# Altium footprint library Deck_PcbLibV1.PcbLib: 13 footprints
Each footprint in its own frame and in the unit in brackets; x right, y up, seen from the top. Pads: shape width x height; smd on the part's side, far side on the other; paste and mask are expansions set on the pad; w line width, h text height; cw(c..) or ccw(c..) is an arc to the next point about the centre after c.
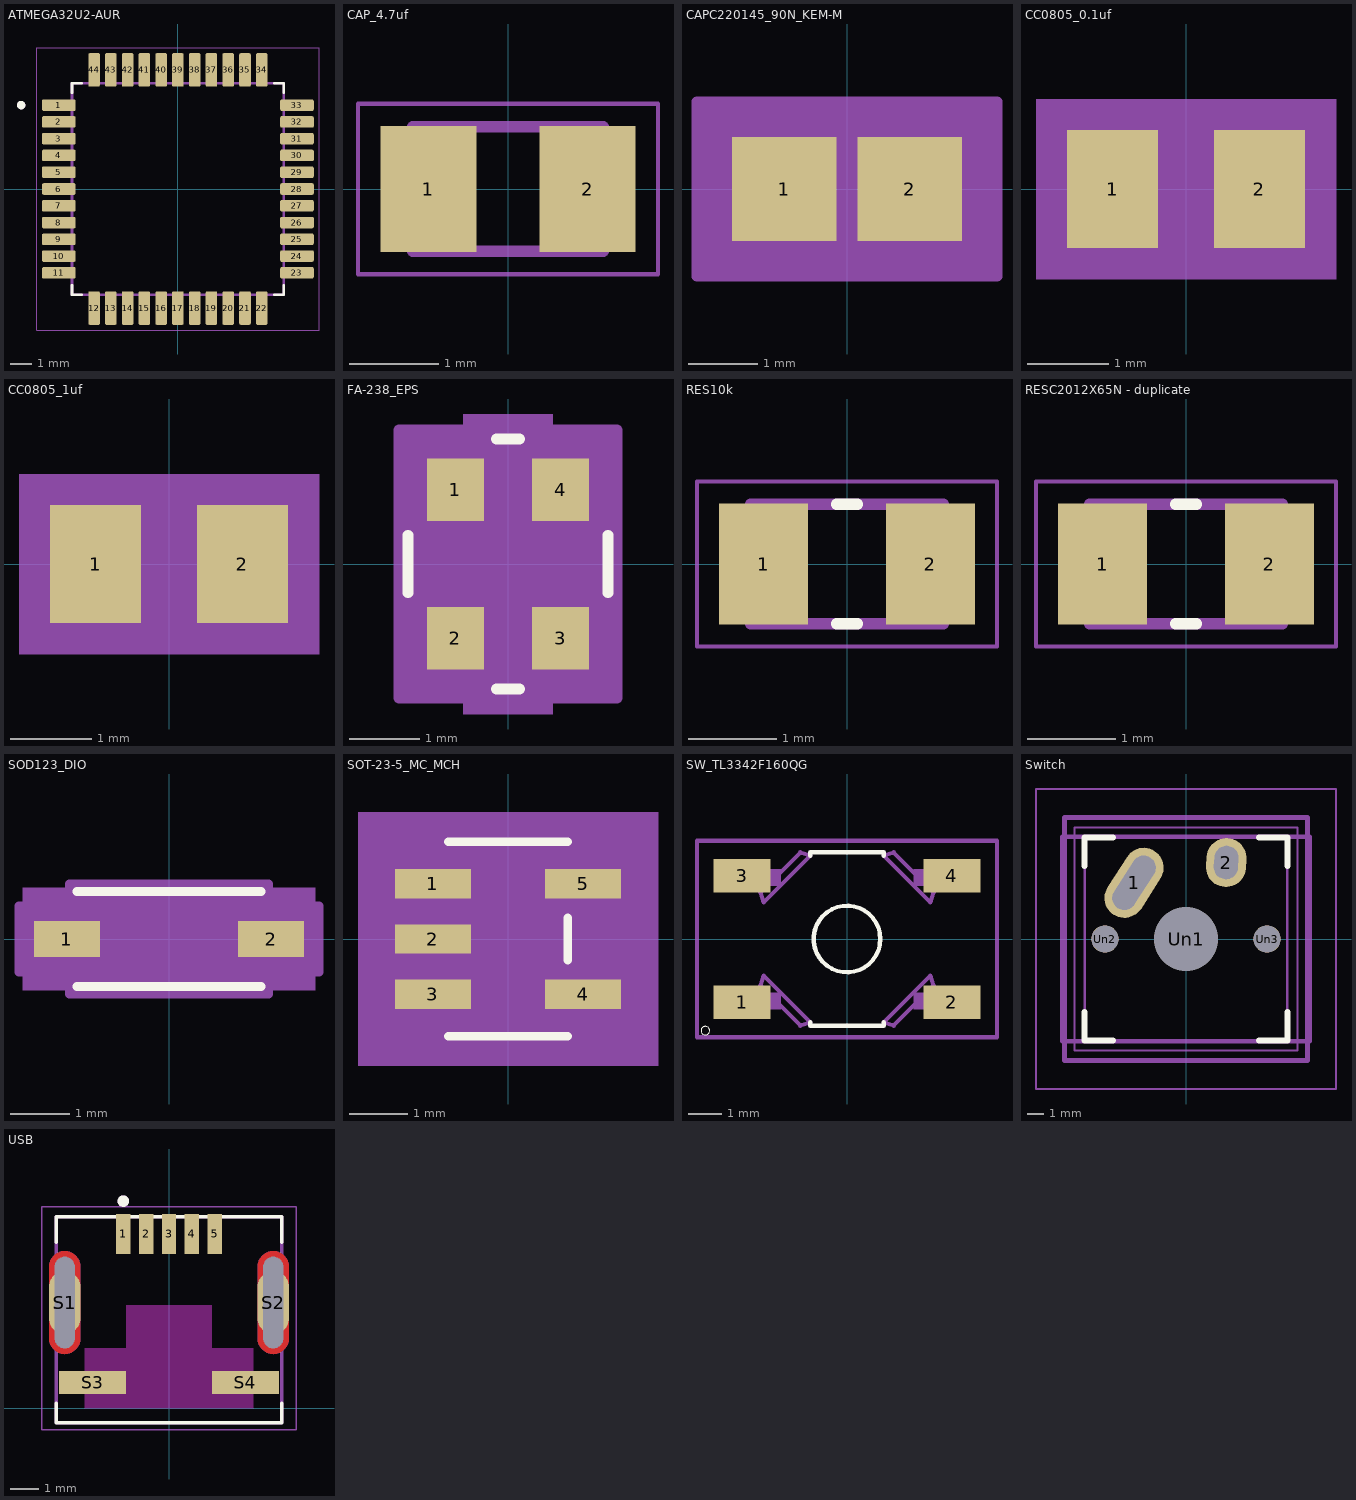
[diagram p0: the footprints below, top view; thin cyan lines are the x and y axes]

## ATMEGA32U2-AUR [mm]
pads (44):
  rrect25% 1.6x0.55 smd: 1(-5.68,4) 2(-5.68,3.2) 3(-5.68,2.4) 4(-5.68,1.6) 5(-5.68,0.8) 6(-5.68,0) 7(-5.68,-0.8) 8(-5.68,-1.6) 9(-5.68,-2.4) 10(-5.68,-3.2) 11(-5.68,-4) 23(5.68,-4) 24(5.68,-3.2) 25(5.68,-2.4) 26(5.68,-1.6) 27(5.68,-0.8) 28(5.68,0) 29(5.68,0.8) 30(5.68,1.6) 31(5.68,2.4) 32(5.68,3.2) 33(5.68,4)
  rrect25% 0.55x1.6 smd: 12(-4,-5.68) 13(-3.2,-5.68) 14(-2.4,-5.68) 15(-1.6,-5.68) 16(-0.8,-5.68) 17(0,-5.68) 18(0.8,-5.68) 19(1.6,-5.68) 20(2.4,-5.68) 21(3.2,-5.68) 22(4,-5.68) 34(4,5.68) 35(3.2,5.68) 36(2.4,5.68) 37(1.6,5.68) 38(0.8,5.68) 39(0,5.68) 40(-0.8,5.68) 41(-1.6,5.68) 42(-2.4,5.68) 43(-3.2,5.68) 44(-4,5.68)
Top Overlay:
  circle w0.2: c-7.48,4 r0.1
  lines w0.127: -5.05,-4.595 -5.05,-5.05 -4.595,-5.05 ; -5.05,4.595 -5.05,5.05 -4.595,5.05 ; 4.595,-5.05 5.05,-5.05 5.05,-4.595 ; 4.595,5.05 5.05,5.05 5.05,4.595
Mechanical 13:
  circle w0.2: c-7.48,4 r0.1
  lines w0.127: -5.05,-5.05 -5.05,5.05 5.05,5.05 5.05,-5.05 -5.05,-5.05
Mechanical 15:
  lines w0.05: -6.73,-6.73 -6.73,6.73 6.73,6.73 6.73,-6.73 -6.73,-6.73
3D body "ATMEGA32U4-AUR--3DModel-STEP-56544.STEP": height 1.21, standoff 0.01, extent -6,-6 6,6

## CAP_4.7uf [mm]
pads (2):
  rect 1.08x1.42 smd: 1(-0.895,0) 2(0.895,0)
Mechanical 13:
  lines w0.127: -1.07,-0.7 1.07,-0.7 1.07,0.7 -1.07,0.7 -1.07,-0.7
Mechanical 15:
  lines w0.05: -1.685,-0.96 1.685,-0.96 1.685,0.96 -1.685,0.96 -1.685,-0.96
3D body "GRM219R61E475KA73D.STEP": height 0.95, standoff 0, extent -1,-0.635 1,0.615

## CAPC220145_90N_KEM-M [mm]
pads (2):
  rect 1.509x1.501 smd paste+0 mask+0: 1(-0.904,0) 2(0.904,0)
Mechanical 5:
  region: 2.04,-1.131 -2.04,-1.131 -2.04,1.131 2.04,1.131
Mechanical 13:
  lines w0.025: -1.1,-0.725 -1.1,0.725 ; -1.1,-0.725 1.1,-0.725 ; -1.1,-0.725 -0.35,-0.725 -0.35,0.725 -1.1,0.725 ; -1.1,-0.725 -1.1,0.725 ; -1.1,0.725 1.1,0.725 ; 1.1,-0.725 1.1,0.725 ; 1.1,-0.725 1.1,0.725 ; 1.1,-0.725 0.35,-0.725 0.35,0.725 1.1,0.725
Mechanical 15:
  region: 2.167,-1.258 -2.167,-1.258 -2.167,1.258 2.167,1.258
  lines w0.152: -2.167,-1.258 2.167,-1.258 2.167,1.258 -2.167,1.258 -2.167,-1.258
3D body "CAPC220145_90N_KEM.step": height 0.9, standoff 0, extent -1.1,-0.725 1.1,0.725
3D body: height 0.25, standoff 0, extent 0,0 0.254,0.254

## CC0805_0.1uf [mil]
pads (2):
  rect 44x57 smd paste+0 mask+0: 1(-35.5,0) 2(35.5,0)
Mechanical 5:
  region: 72.5,-43.5 -72.5,-43.5 -72.5,43.5 72.5,43.5
Mechanical 13:
  lines w1: -43.5,-28.5 -43.5,28.5 ; -43.5,-28.5 -13.5,-28.5 -13.5,28.5 -43.5,28.5 ; -43.5,-28.5 43.5,-28.5 ; -43.5,-28.5 -43.5,28.5 ; -43.5,28.5 43.5,28.5 ; 43.5,-28.5 13.5,-28.5 13.5,28.5 43.5,28.5 ; 43.5,-28.5 43.5,28.5 ; 43.5,-28.5 43.5,28.5
Mechanical 15:
  region: 67.5,-38.5 -67.5,-38.5 -67.5,38.5 67.5,38.5
  lines w6: -67.5,-38.5 -67.5,38.5 67.5,38.5 67.5,-38.5 -67.5,-38.5
3D body "YAG_CC0805_YAG.step": height 57.01, standoff 0, extent -43.5,-28.5 43.51,28.51
3D body: height 10, standoff 0, extent 0,0 10,10

## CC0805_1uf [mil]
pads (2):
  rect 44x57 smd paste+0 mask+0: 1(-35.5,0) 2(35.5,0)
Mechanical 5:
  region: 72.5,-43.5 -72.5,-43.5 -72.5,43.5 72.5,43.5
Mechanical 13:
  lines w1: -43.5,-28.5 -43.5,28.5 ; -43.5,-28.5 43.5,-28.5 ; -43.5,-28.5 -13.5,-28.5 -13.5,28.5 -43.5,28.5 ; -43.5,-28.5 -43.5,28.5 ; -43.5,28.5 43.5,28.5 ; 43.5,-28.5 43.5,28.5 ; 43.5,-28.5 43.5,28.5 ; 43.5,-28.5 13.5,-28.5 13.5,28.5 43.5,28.5
Mechanical 15:
  region: 67.5,-38.5 -67.5,-38.5 -67.5,38.5 67.5,38.5
  lines w6: -67.5,-38.5 67.5,-38.5 67.5,38.5 -67.5,38.5 -67.5,-38.5
3D body "YAG_CC0805_YAG.step": height 57.01, standoff 0, extent -43.5,-28.5 43.51,28.51
3D body: height 10, standoff 0, extent 0,0 10,10

## FA-238_EPS [mil]
pads (4):
  rect 32x35 smd paste+0 mask+0: 1(-29.5,41.5) 2(-29.5,-41.5) 3(29.5,-41.5) 4(29.5,41.5)
Top Overlay:
  lines w6: -56,-16.17 -56,16.17 ; -6.39,-70 6.39,-70 ; -6.39,70 6.39,70 ; 56,-16.17 56,16.17
Mechanical 5:
  region: 25,-84 -25,-84 -25,84 25,84
Mechanical 13:
  lines w1: -51,15 -1,65 ; -51,-65 -51,65 51,65 51,-65 -51,-65 ; -45.5,-65 -45.5,-59 -13.5,-59 -13.5,-65 -45.5,-65 ; -45.5,59 -45.5,65 -13.5,65 -13.5,59 -45.5,59 ; 13.5,-65 13.5,-59 45.5,-59 45.5,-65 13.5,-65 ; 13.5,59 13.5,65 45.5,65 45.5,59 13.5,59
Mechanical 15:
  region: -55.5,-75 -61,-75 -61,3.5 -61,-3.5 -61,75 -55.5,75 55.5,75 61,75 61,-3.5 61,3.5 61,-75 55.5,-75
  lines w6: -61,-75 -55.5,-75 55.5,-75 61,-75 61,3.5 61,-3.5 61,75 55.5,75 -55.5,75 -61,75 -61,-3.5 -61,3.5 -61,-75
3D body "Crystal.STEP": height 27.95, standoff 0, extent -49.22,-62.99 49.21,63
3D body: height 10, standoff 0, extent 0,0 10,10

## RES10k [mm]
pads (2):
  rect 1.01x1.38 smd: 1(-0.95,0) 2(0.95,0)
Top Overlay:
  lines w0.127: -0.12,-0.68 0.12,-0.68 ; -0.12,0.68 0.12,0.68
Mechanical 13:
  lines w0.127: -1.1,-0.68 1.1,-0.68 1.1,0.68 -1.1,0.68 -1.1,-0.68
Mechanical 15:
  lines w0.05: -1.708,-0.94 1.708,-0.94 1.708,0.94 -1.708,0.94 -1.708,-0.94
3D body "RMCF0805JT22R0.STEP": height 0.65, standoff 0, extent -1,-0.625 1,0.625

## RESC2012X65N - duplicate [mm]
pads (2):
  rect 1.01x1.38 smd: 1(-0.95,0) 2(0.95,0)
Top Overlay:
  lines w0.127: -0.12,-0.68 0.12,-0.68 ; -0.12,0.68 0.12,0.68
Mechanical 13:
  lines w0.127: -1.1,-0.68 1.1,-0.68 1.1,0.68 -1.1,0.68 -1.1,-0.68
Mechanical 15:
  lines w0.05: -1.708,-0.94 1.708,-0.94 1.708,0.94 -1.708,0.94 -1.708,-0.94
3D body "RMCF0805JT10K0.STEP": height 0.65, standoff 0, extent -1,-0.625 1,0.625

## SOD123_DIO [mm]
pads (2):
  rect 1.111x0.601 smd paste+0 mask+0: 1(-1.725,0) 2(1.725,0)
Top Overlay:
  lines w0.152: -1.552,-0.802 1.552,-0.802 ; -1.552,0.802 1.552,0.802
Mechanical 5:
  region: 2.471,-0.865 -2.471,-0.865 -2.471,0.865 2.471,0.865
Mechanical 13:
  lines w0.025: -1.425,-0.337 -1.087,-0.675 ; -1.425,0.337 -1.087,0.675 ; -1.925,-0.275 -1.425,-0.275 -1.425,0.275 -1.925,0.275 -1.925,-0.275 ; -1.425,-0.675 -1.425,0.675 1.425,0.675 1.425,-0.675 -1.425,-0.675 ; 1.425,-0.275 1.925,-0.275 1.925,0.275 1.425,0.275 1.425,-0.275
  text "*" at -1.488,-0.635 h1.27
Mechanical 15:
  region: -1.679,-0.554 -2.535,-0.554 -2.535,0.554 -1.679,0.554 -1.679,0.929 1.679,0.929 1.679,0.554 2.535,0.554 2.535,-0.554 1.679,-0.554 1.679,-0.929 -1.679,-0.929
  lines w0.152: -2.535,-0.554 -1.679,-0.554 -1.679,-0.929 1.679,-0.929 1.679,-0.554 2.535,-0.554 2.535,0.554 1.679,0.554 1.679,0.929 -1.679,0.929 -1.679,0.554 -2.535,0.554 -2.535,-0.554
3D body "SOD123_DIO.step": height 0.81, standoff 0, extent -1.925,-0.675 1.925,0.675
3D body: height 0.25, standoff 0, extent 0,0 0.254,0.254

## SOT-23-5_MC_MCH [mil]
pads (5):
  rect 51.56x20 smd paste+0 mask+0: 1(-51,37.4) 2(-51,0) 3(-51,-37.4) 4(51,-37.4) 5(51,37.4)
Top Overlay:
  lines w6: -40.5,-66 40.5,-66 ; -40.5,66 40.5,66 ; 40.5,-14.3 40.5,14.3
Mechanical 5:
  region: 101.78,-86 -101.78,-86 -101.78,86 101.78,86
Mechanical 13:
  lines w0: -12,61 ccw(c0,61) 12,61
  lines w1: -63,-47.4 -35.5,-47.4 -35.5,-27.4 -63,-27.4 -63,-47.4 ; -63,-10 -35.5,-10 -35.5,10 -63,10 -63,-10 ; -63,27.4 -35.5,27.4 -35.5,47.4 -63,47.4 -63,27.4 ; -35.5,-61 -35.5,61 35.5,61 35.5,-61 -35.5,-61 ; 35.5,-47.4 63,-47.4 63,-27.4 35.5,-27.4 35.5,-47.4 ; 35.5,27.4 63,27.4 63,47.4 35.5,47.4 35.5,27.4
  text "*" at -38,14.4 h50
Mechanical 15:
  region: 45.5,-71 -45.5,-71 -45.5,-57.4 -86.78,-57.4 -86.78,57.4 -45.5,57.4 -45.5,71 45.5,71 45.5,57.4 86.78,57.4 86.78,-57.4 45.5,-57.4
  lines w6: -86.78,-57.4 -86.78,57.4 -45.5,57.4 -45.5,71 45.5,71 45.5,57.4 86.78,57.4 86.78,-57.4 45.5,-57.4 45.5,-71 -45.5,-71 -45.5,-57.4 -86.78,-57.4
3D body: height 10, standoff 0, extent 0,0 10,10
3D body "SOT-23-5_MC_MCH.step": height 57.09, standoff 0, extent -62.99,-60.98 63,60.99

## SW_TL3342F160QG [mm]
pads (4):
  rect 1.7x1 smd: 1(-3.15,-1.9) 2(3.15,-1.9) 3(-3.15,1.9) 4(3.15,1.9)
Top Overlay:
  circle w0: c-4.25,-2.75 r0.127
  circle w0.127: c0,0 r1
  lines w0.127: -1.1,-2.5 -1.1,-2.6 1.1,-2.6 1.1,-2.5 ; -1.1,2.5 -1.1,2.6 1.1,2.6 1.1,2.5
Mechanical 13:
  region: 3.205,-2.107 2.007,-2.107 2.007,-1.605 3.205,-1.605
  region: -1.995,-2.106 -3.196,-2.106 -3.196,-1.605 -1.995,-1.605
  region: 3.205,1.597 2.008,1.597 2.008,2.095 3.205,2.095
  region: -1.995,1.597 -3.199,1.597 -3.199,2.095 -1.995,2.095
  lines w0.127: -2.6,-1.4 -2.5,-1.1 -1.1,-2.5 -1.4,-2.6 -2.6,-1.4 ; -2.6,1.4 -2.5,1.1 -1.1,2.5 -1.4,2.6 -2.6,1.4 ; 1.1,-2.5 1.4,-2.6 2.6,-1.4 2.5,-1.1 1.1,-2.5 ; 1.1,2.5 1.4,2.6 2.6,1.4 2.5,1.1 1.1,2.5
Mechanical 15:
  lines w0.127: -4.5,-2.95 -4.5,2.95 4.5,2.95 4.5,-2.95 -4.5,-2.95

## Switch [mm]
pads (5):
  rrect100% 2.5x4.75 hole 3.75 slot 1.5 at 147.5 deg rot 147.5: 1(-3.255,3.52)
  rrect100% 2.5x3.08 hole 2.08 slot 1.5 at 176.1 deg rot 176.1: 2(2.52,4.79)
  round 3.988 hole 3.988: Un1(0,0)
  round 1.702 hole 1.702: Un2(-5.08,0) Un3(5.08,0)
Top Overlay:
  lines w0.381: -6.35,-4.572 -6.35,-6.35 -4.572,-6.35 ; -6.35,4.572 -6.35,6.35 -4.572,6.35 ; 4.572,-6.35 6.35,-6.35 6.35,-4.572 ; 4.572,6.35 6.35,6.35 6.35,4.572
Mechanical 2:
  lines w0.152: -9.398,-9.398 -9.398,9.398 9.398,9.398 9.398,-9.398 -9.398,-9.398
  lines w0.3: -7.75,-6.4 7.75,-6.4 7.75,6.4 -7.75,6.4 -7.75,-6.4 ; -7.62,-7.62 -7.62,7.62 7.62,7.62 7.62,-7.62 -7.62,-7.62
Mechanical 7:
  lines w0.152: -6.35,-6.35 -6.35,6.35 6.35,6.35 6.35,-6.35 -6.35,-6.35
Mechanical 9:
  lines w0.152: -6.985,-6.985 -6.985,6.985 6.985,6.985 6.985,-6.985 -6.985,-6.985

## USB [mm]
pads (9):
  rect 0.5x1.4 smd: 1(-1.6,6.1) 2(-0.8,6.1) 3(0,6.1) 4(0.8,6.1) 5(1.6,6.1)
  oval 1.1x2.2 hole 0.7 slot 3.2 at 90 deg: S1(-3.65,3.7) S2(3.65,3.7)
  rect 2.35x0.8 smd: S3(-2.675,0.9) S4(2.675,0.9)
Top Layer:
  region: -3.621,5.499 -3.593,5.497 -3.564,5.493 -3.536,5.488 -3.508,5.481 -3.48,5.473 -3.453,5.463 -3.426,5.452 -3.4,5.44 -3.375,5.426 -3.35,5.411 -3.327,5.395 -3.304,5.377 -3.282,5.359 -3.261,5.339 -3.241,5.318 -3.223,5.296 -3.205,5.273 -3.189,5.25 -3.174,5.225 -3.16,5.2 -3.148,5.174 -3.137,5.147 -3.127,5.12 -3.119,5.092 -3.112,5.064 -3.107,5.036 -3.103,5.007 -3.101,4.979 -3.1,4.95 -3.1,2.45 -3.101,2.421 -3.103,2.393 -3.107,2.364 -3.112,2.336 -3.119,2.308 -3.127,2.28 -3.137,2.253 -3.148,2.226 -3.16,2.2 -3.174,2.175 -3.189,2.15 -3.205,2.127 -3.223,2.104 -3.241,2.082 -3.261,2.061 -3.282,2.041 -3.304,2.023 -3.327,2.005 -3.35,1.989 -3.375,1.974 -3.4,1.96 -3.426,1.948 -3.453,1.937 -3.48,1.927 -3.508,1.919 -3.536,1.912 -3.564,1.907 -3.593,1.903 -3.621,1.901 -3.65,1.9 -3.679,1.901 -3.707,1.903 -3.736,1.907 -3.764,1.912 -3.792,1.919 -3.82,1.927 -3.847,1.937 -3.874,1.948 -3.9,1.96 -3.925,1.974 -3.95,1.989 -3.973,2.005 -3.996,2.023 -4.018,2.041 -4.039,2.061 -4.059,2.082 -4.077,2.104 -4.095,2.127 -4.111,2.15 -4.126,2.175 -4.14,2.2 -4.152,2.226 -4.163,2.253 -4.173,2.28 -4.181,2.308 -4.188,2.336 -4.193,2.364 -4.197,2.393 -4.199,2.421 -4.2,2.45 -4.2,4.95 -4.199,4.979 -4.197,5.007 -4.193,5.036 -4.188,5.064 -4.181,5.092 -4.173,5.12 -4.163,5.147 -4.152,5.174 -4.14,5.2 -4.126,5.225 -4.111,5.25 -4.095,5.273 -4.077,5.296 -4.059,5.318 -4.039,5.339 -4.018,5.359 -3.996,5.377 -3.973,5.395 -3.95,5.411 -3.925,5.426 -3.9,5.44 -3.874,5.452 -3.847,5.463 -3.82,5.473 -3.792,5.481 -3.764,5.488 -3.736,5.493 -3.707,5.497 -3.679,5.499 -3.65,5.5
  region: 3.679,5.499 3.707,5.497 3.736,5.493 3.764,5.488 3.792,5.481 3.82,5.473 3.847,5.463 3.874,5.452 3.9,5.44 3.925,5.426 3.95,5.411 3.973,5.395 3.996,5.377 4.018,5.359 4.039,5.339 4.059,5.318 4.077,5.296 4.095,5.273 4.111,5.25 4.126,5.225 4.14,5.2 4.152,5.174 4.163,5.147 4.173,5.12 4.181,5.092 4.188,5.064 4.193,5.036 4.197,5.007 4.199,4.979 4.2,4.95 4.2,2.45 4.199,2.421 4.197,2.393 4.193,2.364 4.188,2.336 4.181,2.308 4.173,2.28 4.163,2.253 4.152,2.226 4.14,2.2 4.126,2.175 4.111,2.15 4.095,2.127 4.077,2.104 4.059,2.082 4.039,2.061 4.018,2.041 3.996,2.023 3.973,2.005 3.95,1.989 3.925,1.974 3.9,1.96 3.874,1.948 3.847,1.937 3.82,1.927 3.792,1.919 3.764,1.912 3.736,1.907 3.707,1.903 3.679,1.901 3.65,1.9 3.621,1.901 3.593,1.903 3.564,1.907 3.536,1.912 3.508,1.919 3.48,1.927 3.453,1.937 3.426,1.948 3.4,1.96 3.375,1.974 3.35,1.989 3.327,2.005 3.304,2.023 3.282,2.041 3.261,2.061 3.241,2.082 3.223,2.104 3.205,2.127 3.189,2.15 3.174,2.175 3.16,2.2 3.148,2.226 3.137,2.253 3.127,2.28 3.119,2.308 3.112,2.336 3.107,2.364 3.103,2.393 3.101,2.421 3.1,2.45 3.1,4.95 3.101,4.979 3.103,5.007 3.107,5.036 3.112,5.064 3.119,5.092 3.127,5.12 3.137,5.147 3.148,5.174 3.16,5.2 3.174,5.225 3.189,5.25 3.205,5.273 3.223,5.296 3.241,5.318 3.261,5.339 3.282,5.359 3.304,5.377 3.327,5.395 3.35,5.411 3.375,5.426 3.4,5.44 3.426,5.452 3.453,5.463 3.48,5.473 3.508,5.481 3.536,5.488 3.564,5.493 3.593,5.497 3.621,5.499 3.65,5.5
Bottom Layer:
  region: 3.679,5.499 3.707,5.497 3.736,5.493 3.764,5.488 3.792,5.481 3.82,5.473 3.847,5.463 3.874,5.452 3.9,5.44 3.925,5.426 3.95,5.411 3.973,5.395 3.996,5.377 4.018,5.359 4.039,5.339 4.059,5.318 4.077,5.296 4.095,5.273 4.111,5.25 4.126,5.225 4.14,5.2 4.152,5.174 4.163,5.147 4.173,5.12 4.181,5.092 4.188,5.064 4.193,5.036 4.197,5.007 4.199,4.979 4.2,4.95 4.2,2.45 4.199,2.421 4.197,2.393 4.193,2.364 4.188,2.336 4.181,2.308 4.173,2.28 4.163,2.253 4.152,2.226 4.14,2.2 4.126,2.175 4.111,2.15 4.095,2.127 4.077,2.104 4.059,2.082 4.039,2.061 4.018,2.041 3.996,2.023 3.973,2.005 3.95,1.989 3.925,1.974 3.9,1.96 3.874,1.948 3.847,1.937 3.82,1.927 3.792,1.919 3.764,1.912 3.736,1.907 3.707,1.903 3.679,1.901 3.65,1.9 3.621,1.901 3.593,1.903 3.564,1.907 3.536,1.912 3.508,1.919 3.48,1.927 3.453,1.937 3.426,1.948 3.4,1.96 3.375,1.974 3.35,1.989 3.327,2.005 3.304,2.023 3.282,2.041 3.261,2.061 3.241,2.082 3.223,2.104 3.205,2.127 3.189,2.15 3.174,2.175 3.16,2.2 3.148,2.226 3.137,2.253 3.127,2.28 3.119,2.308 3.112,2.336 3.107,2.364 3.103,2.393 3.101,2.421 3.1,2.45 3.1,4.95 3.101,4.979 3.103,5.007 3.107,5.036 3.112,5.064 3.119,5.092 3.127,5.12 3.137,5.147 3.148,5.174 3.16,5.2 3.174,5.225 3.189,5.25 3.205,5.273 3.223,5.296 3.241,5.318 3.261,5.339 3.282,5.359 3.304,5.377 3.327,5.395 3.35,5.411 3.375,5.426 3.4,5.44 3.426,5.452 3.453,5.463 3.48,5.473 3.508,5.481 3.536,5.488 3.564,5.493 3.593,5.497 3.621,5.499 3.65,5.5
  region: -3.621,5.499 -3.593,5.497 -3.564,5.493 -3.536,5.488 -3.508,5.481 -3.48,5.473 -3.453,5.463 -3.426,5.452 -3.4,5.44 -3.375,5.426 -3.35,5.411 -3.327,5.395 -3.304,5.377 -3.282,5.359 -3.261,5.339 -3.241,5.318 -3.223,5.296 -3.205,5.273 -3.189,5.25 -3.174,5.225 -3.16,5.2 -3.148,5.174 -3.137,5.147 -3.127,5.12 -3.119,5.092 -3.112,5.064 -3.107,5.036 -3.103,5.007 -3.101,4.979 -3.1,4.95 -3.1,2.45 -3.101,2.421 -3.103,2.393 -3.107,2.364 -3.112,2.336 -3.119,2.308 -3.127,2.28 -3.137,2.253 -3.148,2.226 -3.16,2.2 -3.174,2.175 -3.189,2.15 -3.205,2.127 -3.223,2.104 -3.241,2.082 -3.261,2.061 -3.282,2.041 -3.304,2.023 -3.327,2.005 -3.35,1.989 -3.375,1.974 -3.4,1.96 -3.426,1.948 -3.453,1.937 -3.48,1.927 -3.508,1.919 -3.536,1.912 -3.564,1.907 -3.593,1.903 -3.621,1.901 -3.65,1.9 -3.679,1.901 -3.707,1.903 -3.736,1.907 -3.764,1.912 -3.792,1.919 -3.82,1.927 -3.847,1.937 -3.874,1.948 -3.9,1.96 -3.925,1.974 -3.95,1.989 -3.973,2.005 -3.996,2.023 -4.018,2.041 -4.039,2.061 -4.059,2.082 -4.077,2.104 -4.095,2.127 -4.111,2.15 -4.126,2.175 -4.14,2.2 -4.152,2.226 -4.163,2.253 -4.173,2.28 -4.181,2.308 -4.188,2.336 -4.193,2.364 -4.197,2.393 -4.199,2.421 -4.2,2.45 -4.2,4.95 -4.199,4.979 -4.197,5.007 -4.193,5.036 -4.188,5.064 -4.181,5.092 -4.173,5.12 -4.163,5.147 -4.152,5.174 -4.14,5.2 -4.126,5.225 -4.111,5.25 -4.095,5.273 -4.077,5.296 -4.059,5.318 -4.039,5.339 -4.018,5.359 -3.996,5.377 -3.973,5.395 -3.95,5.411 -3.925,5.426 -3.9,5.44 -3.874,5.452 -3.847,5.463 -3.82,5.473 -3.792,5.481 -3.764,5.488 -3.736,5.493 -3.707,5.497 -3.679,5.499 -3.65,5.5
Top Overlay:
  circle w0.2: c-1.6,7.25 r0.1
  lines w0.127: -3.95,0.18 -3.95,-0.5 3.95,-0.5 3.95,0.18 ; -3.95,5.82 -3.95,6.7 3.95,6.7 3.95,5.82
Top Solder:
  drawing of 2 lines, arcs and shapes, not listed
Bottom Solder:
  drawing of 2 lines, arcs and shapes, not listed
Keep-Out Layer:
  region: 1.5,2.1 2.95,2.1 2.95,1.3 1.5,1.3 1.5,0.5 2.95,0.5 2.95,0 -2.95,0 -2.95,0.5 -1.5,0.5 -1.5,1.3 -2.95,1.3 -2.95,2.1 -1.5,2.1 -1.5,3.6 1.5,3.6
Mechanical 13:
  circle w0.2: c-1.6,7.25 r0.1
  lines w0.127: -3.95,-0.5 3.95,-0.5 3.95,6.7 -3.95,6.7 -3.95,-0.5
Mechanical 15:
  lines w0.05: -4.45,-0.75 4.45,-0.75 4.45,7.05 -4.45,7.05 -4.45,-0.75
3D body "USB.stp": height 3.94, standoff -0.76, extent -3.85,-0.381 3.85,6.619